# EAGLE library part R-78AA5.0-0.5 (library BMC components)
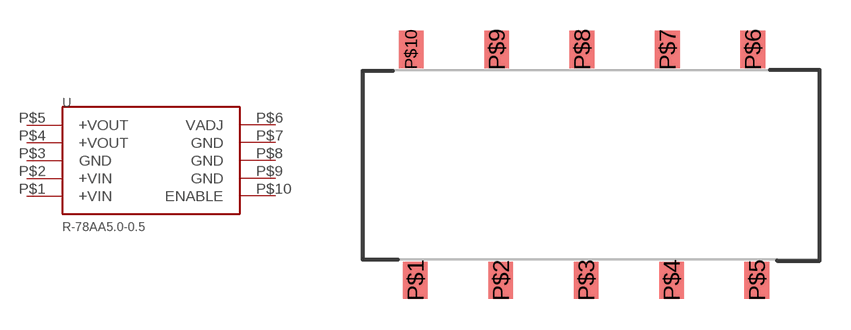
[diagram p4: symbol with the pads of R-78AXX-0.5SMD; footprint R-78AXX-0.5SMD]

Designator prefix -

## R-78AA5.0-0.5  [R-78AXX-0.5SMD]
P$1  +VIN
P$2  +VIN
P$3  GND
P$4  +VOUT
P$5  +VOUT
P$6  VADJ
P$7  GND
P$8  GND
P$9  GND
P$10  ENABLE

## Footprint R-78AXX-0.5SMD (pad centres in mm)
smd 1.2 x 1.8: P$1 0,0; P$2 4.14,0; P$3 8.28,0; P$4 12.42,0; P$5 16.56,0; P$6 16.36,11.2; P$7 12.22,11.2; P$8 8.08,11.2; P$9 3.94,11.2; P$10 -0.2,11.2